# Altium footprint library LED_BLUE.PcbLib: 2 footprints
Each footprint in its own frame and in the unit in brackets; x right, y up, seen from the top. Pads: shape width x height; smd on the part's side, far side on the other; paste and mask are expansions set on the pad; w line width, h text height; cw(c..) or ccw(c..) is an arc to the next point about the centre after c.
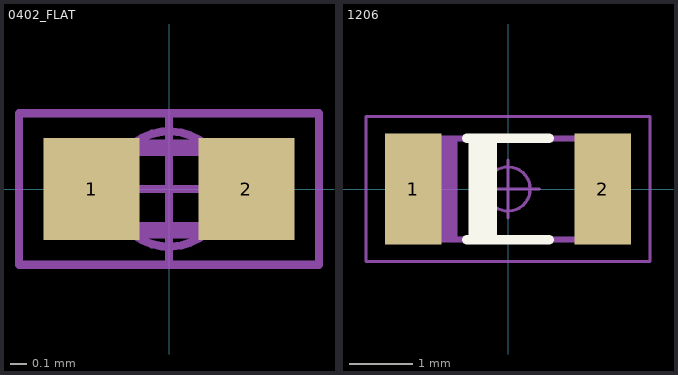
[diagram p0: the footprints below, top view; thin cyan lines are the x and y axes]

## 0402_FLAT [mm] "Chip Resistor, EIA 0402, Metric 1005, Body 1.0x0.5mm, IPC Medium Density"
height 0.4
pads (2):
  rect 0.58x0.62 smd: 1(-0.47,0) 2(0.47,0)
Mechanical 14:
  region: -0.5,0.25 -0.5,-0.25 -0.2,-0.25 -0.2,0.25
  lines w0.1: -0.5,-0.25 -0.5,0.25 0.5,0.25 0.5,-0.25 -0.5,-0.25
  text ".Designator" at -0.35,-0.1 h0.2
Mechanical 15:
  circle w0.05: c0,0 r0.35
  lines w0.05: -0.5,0 0.5,0 ; 0,-0.46 0,0.46 ; -0.91,-0.46 -0.91,0.46 0.91,0.46 0.91,-0.46 -0.91,-0.46
3D body: height 0.25, standoff 0.09, extent -0.5,-0.25 0.5,0.25
3D body: height 0.09, standoff 0, extent -0.5,-0.25 0.5,0.25

## 1206 [mm] "Green Chip LED, 2-Leads, Body 3.2 x1.6mm, IPC Medium Density"
height 1.2
pads (2):
  rect 0.9x1.75 smd: 1(-1.5,0) 2(1.5,0)
Top Overlay:
  lines w0.15: -0.65,-0.8 0.65,-0.8 ; -0.65,0.8 0.65,0.8 ; -0.55,-0.8 -0.55,0.8 ; -0.45,-0.8 -0.45,0.8 ; -0.35,-0.8 -0.35,0.8 ; -0.25,-0.8 -0.25,0.8
Mechanical 14:
  region: -1.6,0.8 -1.6,-0.8 -0.8,-0.8 -0.8,0.8
  lines w0.1: -1.6,-0.8 1.6,-0.8 1.6,0.8 -1.6,0.8 -1.6,-0.8
  text ".Designator" at -0.6,-0.25 h0.5
Mechanical 15:
  circle w0.05: c0,0 r0.35
  lines w0.05: -0.5,0 0.5,0 ; 0,-0.46 0,0.46 ; -2.25,-1.15 2.25,-1.15 2.25,1.15 -2.25,1.15 -2.25,-1.15
3D body "LED_LITEON_LTST-C150TBKT.stp": height 1.1, standoff 0, extent -1.6,-0.8 1.6,0.8